# Altium footprint library WifiGain.PcbLib: 6 footprints
Each footprint in its own frame and in the unit in brackets; x right, y up, seen from the top. Pads: shape width x height; smd on the part's side, far side on the other; paste and mask are expansions set on the pad; w line width, h text height; cw(c..) or ccw(c..) is an arc to the next point about the centre after c.
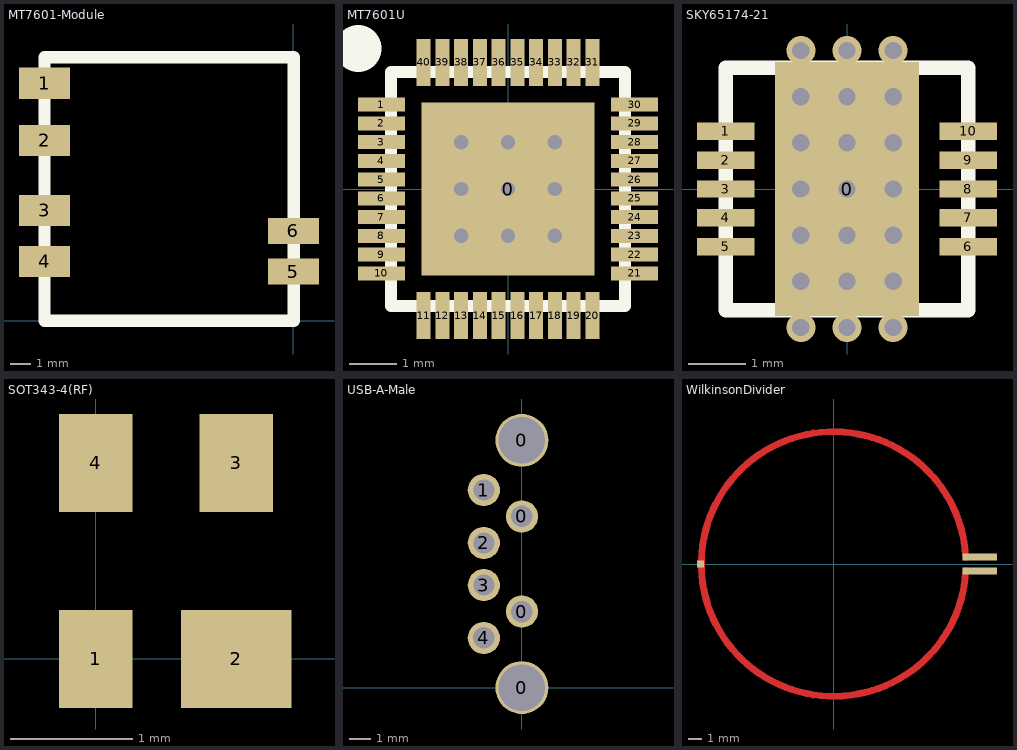
[diagram p0: the footprints below, top view; thin cyan lines are the x and y axes]

## MT7601-Module [mm]
pads (6):
  rect 2.5x1.524 smd: 1(-12.192,11.627) 2(-12.192,8.827) 3(-12.192,5.4) 4(-12.192,2.9)
  rect 2.5x1.27 smd: 5(0,2.4) 6(0,4.4)
Top Overlay:
  lines w0.6: -12.192,0 -12.192,12.9 0.008,12.9 0.008,0 -12.192,0

## MT7601U [mm]
pads (41):
  rect 3.7x3.7 smd: 0(0,0)
  rect 1x0.3 smd: 1(-2.7,1.8) 2(-2.7,1.4) 3(-2.7,1) 4(-2.7,0.6) 5(-2.7,0.2) 6(-2.7,-0.2) 7(-2.7,-0.6) 8(-2.7,-1) 9(-2.7,-1.4) 10(-2.7,-1.8) 21(2.7,-1.8) 22(2.7,-1.4) 23(2.7,-1) 24(2.7,-0.6) 25(2.7,-0.2) 26(2.7,0.2) 27(2.7,0.6) 28(2.7,1) 29(2.7,1.4) 30(2.7,1.8)
  rect 0.3x1 smd: 11(-1.8,-2.7) 12(-1.4,-2.7) 13(-1,-2.7) 14(-0.6,-2.7) 15(-0.2,-2.7) 16(0.2,-2.7) 17(0.6,-2.7) 18(1,-2.7) 19(1.4,-2.7) 20(1.8,-2.7) 31(1.8,2.7) 32(1.4,2.7) 33(1,2.7) 34(0.6,2.7) 35(0.2,2.7) 36(-0.2,2.7) 37(-0.6,2.7) 38(-1,2.7) 39(-1.4,2.7) 40(-1.8,2.7)
via 0,0 diameter 0.508 hole 0.305
via 0,1 diameter 0.508 hole 0.305
via 1,1 diameter 0.508 hole 0.305
via 1,0 diameter 0.508 hole 0.305
via 1,-1 diameter 0.508 hole 0.305
via 0,-1 diameter 0.508 hole 0.305
via -1,-1 diameter 0.508 hole 0.305
via -1,0 diameter 0.508 hole 0.305
via -1,1 diameter 0.508 hole 0.305
Top Overlay:
  lines w0.254: -2.5,-2.5 -2.5,2.5 2.5,2.5 2.5,-2.5 -2.5,-2.5
  lines w1: -3.2,3 -3.2,3

## SKY65174-21 [mm]
pads (11):
  rect 2.5x4.4 smd: 0(0,0)
  rect 1x0.3 smd: 1(-2.1,1) 2(-2.1,0.5) 3(-2.1,0) 4(-2.1,-0.5) 5(-2.1,-1) 6(2.1,-1) 7(2.1,-0.5) 8(2.1,0) 9(2.1,0.5) 10(2.1,1)
via 0,-2.4 diameter 0.5 hole 0.3
via 0.8,-2.4 diameter 0.5 hole 0.3
via -0.8,-2.4 diameter 0.5 hole 0.3
via 0,2.4 diameter 0.5 hole 0.3
via 0.8,2.4 diameter 0.5 hole 0.3
via -0.8,2.4 diameter 0.5 hole 0.3
via 0,1.6 diameter 0.5 hole 0.3
via 0.8,1.6 diameter 0.5 hole 0.3
via -0.8,1.6 diameter 0.5 hole 0.3
via 0,0.8 diameter 0.5 hole 0.3
via 0.8,0.8 diameter 0.5 hole 0.3
via -0.8,0.8 diameter 0.5 hole 0.3
via 0,-1.6 diameter 0.5 hole 0.3
via 0.8,-1.6 diameter 0.5 hole 0.3
via -0.8,-1.6 diameter 0.5 hole 0.3
via 0,-0.8 diameter 0.5 hole 0.3
via 0.8,-0.8 diameter 0.5 hole 0.3
via -0.8,-0.8 diameter 0.5 hole 0.3
via -0.8,0 diameter 0.5 hole 0.3
via 0.8,0 diameter 0.5 hole 0.3
via 0,0 diameter 0.5 hole 0.3
Top Overlay:
  lines w0.254: -2.1,-2.1 2.1,-2.1 2.1,2.1 -2.1,2.1 -2.1,-2.1

## SOT343-4(RF) [mm]
pads (4):
  rect 0.6x0.8 smd: 1(0,0) 3(1.15,1.6) 4(0,1.6)
  rect 0.9x0.8 smd: 2(1.15,0)

## USB-A-Male [mm]
pads (8):
  round 2.5 hole 2.2: 0(0,0) 0(0,11.7)
  round 1.524 hole 1.016: 0(0,3.6) 0(0,8.1) 4(-1.8,2.35)
  round 1.524 hole 1: 1(-1.8,9.35) 2(-1.8,6.85) 3(-1.8,4.85)
3D body: height 4, standoff 0, extent 0.2,-0.1 19,11.9

## WilkinsonDivider [mil]
pads (3):
  rect 20x20 smd: 1(-385.83,0)
  rect 100x20 smd: 2(423.35,20) 3(423.35,-20)
Top Layer:
  lines w20: 382.83,-19.97 cw(c0,0) 382.83,19.97